# Altium footprint library IPC-7355 QFP_Shrink_Rect_30P_Side_M.PcbLib: 12 footprints
Each footprint in its own frame and in the unit in brackets; x right, y up, seen from the top. Pads: shape width x height; smd on the part's side, far side on the other; paste and mask are expansions set on the pad; w line width, h text height; cw(c..) or ccw(c..) is an arc to the next point about the centre after c.
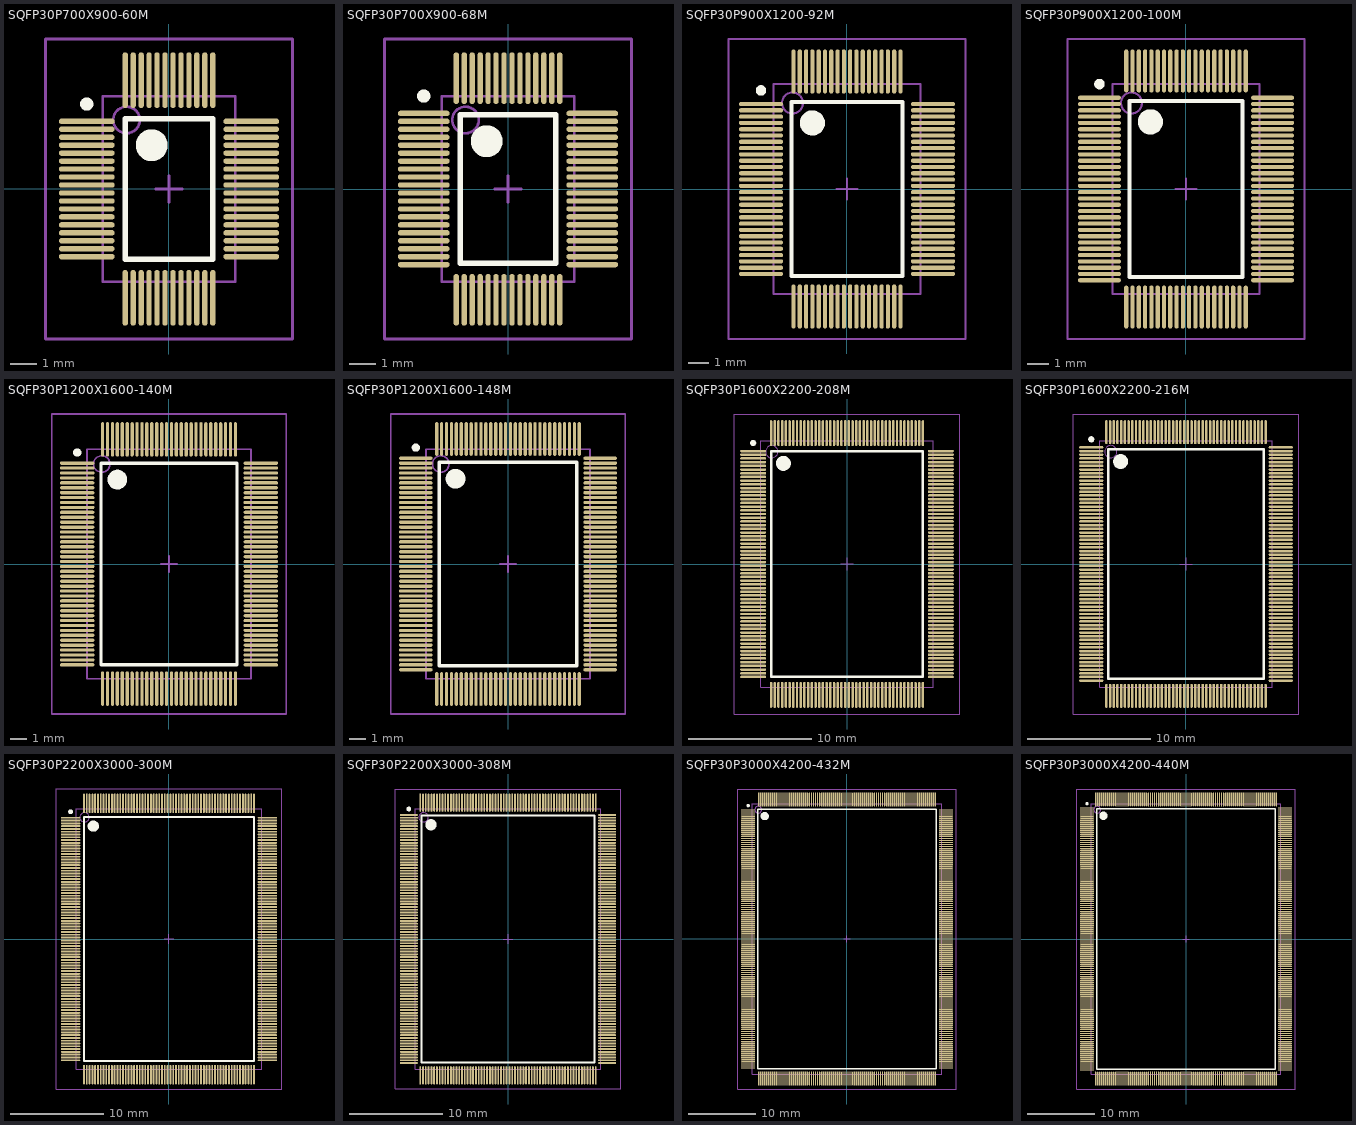
[diagram p0: the footprints below, top view; thin cyan lines are the x and y axes]

## SQFP30P700X900-60M [mm] "Shrink QFP, 60-Leads, Body 7x5 mm, Pitch 0.3mm, IPC Low Density"
height 1.7
pads (60):
  oval 2.1x0.2 smd: 1(-3.1,2.55) 2(-3.1,2.25) 3(-3.1,1.95) 4(-3.1,1.65) 5(-3.1,1.35) 6(-3.1,1.05) 7(-3.1,0.75) 8(-3.1,0.45) 9(-3.1,0.15) 10(-3.1,-0.15) 11(-3.1,-0.45) 12(-3.1,-0.75) 13(-3.1,-1.05) 14(-3.1,-1.35) 15(-3.1,-1.65) 16(-3.1,-1.95) 17(-3.1,-2.25) 18(-3.1,-2.55) 31(3.1,-2.55) 32(3.1,-2.25) 33(3.1,-1.95) 34(3.1,-1.65) 35(3.1,-1.35) 36(3.1,-1.05) 37(3.1,-0.75) 38(3.1,-0.45) 39(3.1,-0.15) 40(3.1,0.15) 41(3.1,0.45) 42(3.1,0.75) 43(3.1,1.05) 44(3.1,1.35) 45(3.1,1.65) 46(3.1,1.95) 47(3.1,2.25) 48(3.1,2.55)
  oval 0.2x2.1 smd: 19(-1.65,-4.1) 20(-1.35,-4.1) 21(-1.05,-4.1) 22(-0.75,-4.1) 23(-0.45,-4.1) 24(-0.15,-4.1) 25(0.15,-4.1) 26(0.45,-4.1) 27(0.75,-4.1) 28(1.05,-4.1) 29(1.35,-4.1) 30(1.65,-4.1) 49(1.65,4.1) 50(1.35,4.1) 51(1.05,4.1) 52(0.75,4.1) 53(0.45,4.1) 54(0.15,4.1) 55(-0.15,4.1) 56(-0.45,4.1) 57(-0.75,4.1) 58(-1.05,4.1) 59(-1.35,4.1) 60(-1.65,4.1)
Top Overlay:
  circle w0.6: c-0.65,1.65 r0.3
  circle w0.25: c-3.1,3.2 r0.125
  lines w0.2: -1.65,-2.65 1.65,-2.65 1.65,2.65 -1.65,2.65 -1.65,-2.65
Mechanical 13:
  circle w0.1: c-1.6,2.6 r0.5
  lines w0.1: -2.5,-3.5 2.5,-3.5 2.5,3.5 -2.5,3.5 -2.5,-3.5
Mechanical 15:
  lines w0.1: -0.5,0 0.5,0 ; 0,-0.5 0,0.5 ; -4.65,-5.65 4.65,-5.65 4.65,5.65 -4.65,5.65 -4.65,-5.65
3D body: height 1.7, standoff 0, extent -2.5,-3.5 2.5,3.5

## SQFP30P700X900-68M [mm] "Shrink QFP, 68-Leads, Body 7x5 mm, Pitch 0.3mm, IPC Low Density"
height 1.7
pads (68):
  oval 1.95x0.2 smd: 1(-3.175,2.85) 2(-3.175,2.55) 3(-3.175,2.25) 4(-3.175,1.95) 5(-3.175,1.65) 6(-3.175,1.35) 7(-3.175,1.05) 8(-3.175,0.75) 9(-3.175,0.45) 10(-3.175,0.15) 11(-3.175,-0.15) 12(-3.175,-0.45) 13(-3.175,-0.75) 14(-3.175,-1.05) 15(-3.175,-1.35) 16(-3.175,-1.65) 17(-3.175,-1.95) 18(-3.175,-2.25) 19(-3.175,-2.55) 20(-3.175,-2.85) 35(3.175,-2.85) 36(3.175,-2.55) 37(3.175,-2.25) 38(3.175,-1.95) 39(3.175,-1.65) 40(3.175,-1.35) 41(3.175,-1.05) 42(3.175,-0.75) 43(3.175,-0.45) 44(3.175,-0.15) 45(3.175,0.15) 46(3.175,0.45) 47(3.175,0.75) 48(3.175,1.05) 49(3.175,1.35) 50(3.175,1.65) 51(3.175,1.95) 52(3.175,2.25) 53(3.175,2.55) 54(3.175,2.85)
  oval 0.2x1.95 smd: 21(-1.95,-4.175) 22(-1.65,-4.175) 23(-1.35,-4.175) 24(-1.05,-4.175) 25(-0.75,-4.175) 26(-0.45,-4.175) 27(-0.15,-4.175) 28(0.15,-4.175) 29(0.45,-4.175) 30(0.75,-4.175) 31(1.05,-4.175) 32(1.35,-4.175) 33(1.65,-4.175) 34(1.95,-4.175) 55(1.95,4.175) 56(1.65,4.175) 57(1.35,4.175) 58(1.05,4.175) 59(0.75,4.175) 60(0.45,4.175) 61(0.15,4.175) 62(-0.15,4.175) 63(-0.45,4.175) 64(-0.75,4.175) 65(-1.05,4.175) 66(-1.35,4.175) 67(-1.65,4.175) 68(-1.95,4.175)
Top Overlay:
  circle w0.25: c-3.175,3.5 r0.125
  circle w0.6: c-0.8,1.8 r0.3
  lines w0.2: -1.8,-2.8 -1.8,2.8 1.8,2.8 1.8,-2.8 -1.8,-2.8
Mechanical 13:
  circle w0.1: c-1.6,2.6 r0.5
  lines w0.1: -2.5,-3.5 -2.5,3.5 2.5,3.5 2.5,-3.5 -2.5,-3.5
Mechanical 15:
  lines w0.1: -0.5,0 0.5,0 ; 0,-0.5 0,0.5 ; -4.65,-5.65 -4.65,5.65 4.65,5.65 4.65,-5.65 -4.65,-5.65
3D body: height 1.7, standoff 0, extent -2.5,-3.5 2.5,3.5

## SQFP30P900X1200-92M [mm] "Shrink QFP, 92-Leads, Body 10x7 mm, Pitch 0.3mm, IPC Low Density"
height 2.2
pads (92):
  oval 2.1x0.2 smd: 1(-4.1,4.05) 2(-4.1,3.75) 3(-4.1,3.45) 4(-4.1,3.15) 5(-4.1,2.85) 6(-4.1,2.55) 7(-4.1,2.25) 8(-4.1,1.95) 9(-4.1,1.65) 10(-4.1,1.35) 11(-4.1,1.05) 12(-4.1,0.75) 13(-4.1,0.45) 14(-4.1,0.15) 15(-4.1,-0.15) 16(-4.1,-0.45) 17(-4.1,-0.75) 18(-4.1,-1.05) 19(-4.1,-1.35) 20(-4.1,-1.65) 21(-4.1,-1.95) 22(-4.1,-2.25) 23(-4.1,-2.55) 24(-4.1,-2.85) 25(-4.1,-3.15) 26(-4.1,-3.45) 27(-4.1,-3.75) 28(-4.1,-4.05) 47(4.1,-4.05) 48(4.1,-3.75) 49(4.1,-3.45) 50(4.1,-3.15) 51(4.1,-2.85) 52(4.1,-2.55) 53(4.1,-2.25) 54(4.1,-1.95) 55(4.1,-1.65) 56(4.1,-1.35) 57(4.1,-1.05) 58(4.1,-0.75) 59(4.1,-0.45) 60(4.1,-0.15) 61(4.1,0.15) 62(4.1,0.45) 63(4.1,0.75) 64(4.1,1.05) 65(4.1,1.35) 66(4.1,1.65) 67(4.1,1.95) 68(4.1,2.25) 69(4.1,2.55) 70(4.1,2.85) 71(4.1,3.15) 72(4.1,3.45) 73(4.1,3.75) 74(4.1,4.05)
  oval 0.2x2.1 smd: 29(-2.55,-5.6) 30(-2.25,-5.6) 31(-1.95,-5.6) 32(-1.65,-5.6) 33(-1.35,-5.6) 34(-1.05,-5.6) 35(-0.75,-5.6) 36(-0.45,-5.6) 37(-0.15,-5.6) 38(0.15,-5.6) 39(0.45,-5.6) 40(0.75,-5.6) 41(1.05,-5.6) 42(1.35,-5.6) 43(1.65,-5.6) 44(1.95,-5.6) 45(2.25,-5.6) 46(2.55,-5.6) 75(2.55,5.6) 76(2.25,5.6) 77(1.95,5.6) 78(1.65,5.6) 79(1.35,5.6) 80(1.05,5.6) 81(0.75,5.6) 82(0.45,5.6) 83(0.15,5.6) 84(-0.15,5.6) 85(-0.45,5.6) 86(-0.75,5.6) 87(-1.05,5.6) 88(-1.35,5.6) 89(-1.65,5.6) 90(-1.95,5.6) 91(-2.25,5.6) 92(-2.55,5.6)
Top Overlay:
  circle w0.25: c-4.1,4.7 r0.125
  circle w0.6: c-1.65,3.15 r0.3
  lines w0.2: -2.65,-4.15 -2.65,4.15 2.65,4.15 2.65,-4.15 -2.65,-4.15
Mechanical 13:
  circle w0.1: c-2.6,4.1 r0.5
  lines w0.1: -3.5,-5 -3.5,5 3.5,5 3.5,-5 -3.5,-5
Mechanical 15:
  lines w0.1: -0.5,0 0.5,0 ; 0,-0.5 0,0.5 ; -5.65,-7.15 -5.65,7.15 5.65,7.15 5.65,-7.15 -5.65,-7.15
3D body: height 2.2, standoff 0, extent -3.5,-5 3.5,5

## SQFP30P900X1200-100M [mm] "Shrink QFP, 100-Leads, Body 10x7 mm, Pitch 0.3mm, IPC Low Density"
height 2.2
pads (100):
  oval 2.05x0.2 smd: 1(-4.125,4.35) 2(-4.125,4.05) 3(-4.125,3.75) 4(-4.125,3.45) 5(-4.125,3.15) 6(-4.125,2.85) 7(-4.125,2.55) 8(-4.125,2.25) 9(-4.125,1.95) 10(-4.125,1.65) 11(-4.125,1.35) 12(-4.125,1.05) 13(-4.125,0.75) 14(-4.125,0.45) 15(-4.125,0.15) 16(-4.125,-0.15) 17(-4.125,-0.45) 18(-4.125,-0.75) 19(-4.125,-1.05) 20(-4.125,-1.35) 21(-4.125,-1.65) 22(-4.125,-1.95) 23(-4.125,-2.25) 24(-4.125,-2.55) 25(-4.125,-2.85) 26(-4.125,-3.15) 27(-4.125,-3.45) 28(-4.125,-3.75) 29(-4.125,-4.05) 30(-4.125,-4.35) 51(4.125,-4.35) 52(4.125,-4.05) 53(4.125,-3.75) 54(4.125,-3.45) 55(4.125,-3.15) 56(4.125,-2.85) 57(4.125,-2.55) 58(4.125,-2.25) 59(4.125,-1.95) 60(4.125,-1.65) 61(4.125,-1.35) 62(4.125,-1.05) 63(4.125,-0.75) 64(4.125,-0.45) 65(4.125,-0.15) 66(4.125,0.15) 67(4.125,0.45) 68(4.125,0.75) 69(4.125,1.05) 70(4.125,1.35) 71(4.125,1.65) 72(4.125,1.95) 73(4.125,2.25) 74(4.125,2.55) 75(4.125,2.85) 76(4.125,3.15) 77(4.125,3.45) 78(4.125,3.75) 79(4.125,4.05) 80(4.125,4.35)
  oval 0.2x2.05 smd: 31(-2.85,-5.625) 32(-2.55,-5.625) 33(-2.25,-5.625) 34(-1.95,-5.625) 35(-1.65,-5.625) 36(-1.35,-5.625) 37(-1.05,-5.625) 38(-0.75,-5.625) 39(-0.45,-5.625) 40(-0.15,-5.625) 41(0.15,-5.625) 42(0.45,-5.625) 43(0.75,-5.625) 44(1.05,-5.625) 45(1.35,-5.625) 46(1.65,-5.625) 47(1.95,-5.625) 48(2.25,-5.625) 49(2.55,-5.625) 50(2.85,-5.625) 81(2.85,5.625) 82(2.55,5.625) 83(2.25,5.625) 84(1.95,5.625) 85(1.65,5.625) 86(1.35,5.625) 87(1.05,5.625) 88(0.75,5.625) 89(0.45,5.625) 90(0.15,5.625) 91(-0.15,5.625) 92(-0.45,5.625) 93(-0.75,5.625) 94(-1.05,5.625) 95(-1.35,5.625) 96(-1.65,5.625) 97(-1.95,5.625) 98(-2.25,5.625) 99(-2.55,5.625) 100(-2.85,5.625)
Top Overlay:
  circle w0.25: c-4.125,5 r0.125
  circle w0.6: c-1.7,3.2 r0.3
  lines w0.2: -2.7,-4.2 -2.7,4.2 2.7,4.2 2.7,-4.2 -2.7,-4.2
Mechanical 13:
  circle w0.1: c-2.6,4.1 r0.5
  lines w0.1: -3.5,-5 -3.5,5 3.5,5 3.5,-5 -3.5,-5
Mechanical 15:
  lines w0.1: -0.5,0 0.5,0 ; 0,-0.5 0,0.5 ; -5.65,-7.15 -5.65,7.15 5.65,7.15 5.65,-7.15 -5.65,-7.15
3D body: height 2.2, standoff 0, extent -3.5,-5 3.5,5

## SQFP30P1200X1600-140M [mm] "Shrink QFP, 140-Leads, Body 14x10 mm, Pitch 0.3mm, IPC Low Density"
height 2.2
pads (140):
  oval 2.1x0.2 smd: 1(-5.6,6.15) 2(-5.6,5.85) 3(-5.6,5.55) 4(-5.6,5.25) 5(-5.6,4.95) 6(-5.6,4.65) 7(-5.6,4.35) 8(-5.6,4.05) 9(-5.6,3.75) 10(-5.6,3.45) 11(-5.6,3.15) 12(-5.6,2.85) 13(-5.6,2.55) 14(-5.6,2.25) 15(-5.6,1.95) 16(-5.6,1.65) 17(-5.6,1.35) 18(-5.6,1.05) 19(-5.6,0.75) 20(-5.6,0.45) 21(-5.6,0.15) 22(-5.6,-0.15) 23(-5.6,-0.45) 24(-5.6,-0.75) 25(-5.6,-1.05) 26(-5.6,-1.35) 27(-5.6,-1.65) 28(-5.6,-1.95) 29(-5.6,-2.25) 30(-5.6,-2.55) 31(-5.6,-2.85) 32(-5.6,-3.15) 33(-5.6,-3.45) 34(-5.6,-3.75) 35(-5.6,-4.05) 36(-5.6,-4.35) 37(-5.6,-4.65) 38(-5.6,-4.95) 39(-5.6,-5.25) 40(-5.6,-5.55) 41(-5.6,-5.85) 42(-5.6,-6.15) 71(5.6,-6.15) 72(5.6,-5.85) 73(5.6,-5.55) 74(5.6,-5.25) 75(5.6,-4.95) 76(5.6,-4.65) 77(5.6,-4.35) 78(5.6,-4.05) 79(5.6,-3.75) 80(5.6,-3.45) 81(5.6,-3.15) 82(5.6,-2.85) 83(5.6,-2.55) 84(5.6,-2.25) 85(5.6,-1.95) 86(5.6,-1.65) 87(5.6,-1.35) 88(5.6,-1.05) 89(5.6,-0.75) 90(5.6,-0.45) 91(5.6,-0.15) 92(5.6,0.15) 93(5.6,0.45) 94(5.6,0.75) 95(5.6,1.05) 96(5.6,1.35) 97(5.6,1.65) 98(5.6,1.95) 99(5.6,2.25) 100(5.6,2.55) 101(5.6,2.85) 102(5.6,3.15) 103(5.6,3.45) 104(5.6,3.75) 105(5.6,4.05) 106(5.6,4.35) 107(5.6,4.65) 108(5.6,4.95) 109(5.6,5.25) 110(5.6,5.55) 111(5.6,5.85) 112(5.6,6.15)
  oval 0.2x2.1 smd: 43(-4.05,-7.6) 44(-3.75,-7.6) 45(-3.45,-7.6) 46(-3.15,-7.6) 47(-2.85,-7.6) 48(-2.55,-7.6) 49(-2.25,-7.6) 50(-1.95,-7.6) 51(-1.65,-7.6) 52(-1.35,-7.6) 53(-1.05,-7.6) 54(-0.75,-7.6) 55(-0.45,-7.6) 56(-0.15,-7.6) 57(0.15,-7.6) 58(0.45,-7.6) 59(0.75,-7.6) 60(1.05,-7.6) 61(1.35,-7.6) 62(1.65,-7.6) 63(1.95,-7.6) 64(2.25,-7.6) 65(2.55,-7.6) 66(2.85,-7.6) 67(3.15,-7.6) 68(3.45,-7.6) 69(3.75,-7.6) 70(4.05,-7.6) 113(4.05,7.6) 114(3.75,7.6) 115(3.45,7.6) 116(3.15,7.6) 117(2.85,7.6) 118(2.55,7.6) 119(2.25,7.6) 120(1.95,7.6) 121(1.65,7.6) 122(1.35,7.6) 123(1.05,7.6) 124(0.75,7.6) 125(0.45,7.6) 126(0.15,7.6) 127(-0.15,7.6) 128(-0.45,7.6) 129(-0.75,7.6) 130(-1.05,7.6) 131(-1.35,7.6) 132(-1.65,7.6) 133(-1.95,7.6) 134(-2.25,7.6) 135(-2.55,7.6) 136(-2.85,7.6) 137(-3.15,7.6) 138(-3.45,7.6) 139(-3.75,7.6) 140(-4.05,7.6)
Top Overlay:
  circle w0.25: c-5.6,6.8 r0.125
  circle w0.6: c-3.15,5.15 r0.3
  lines w0.2: -4.15,-6.15 -4.15,6.15 4.15,6.15 4.15,-6.15 -4.15,-6.15
Mechanical 13:
  circle w0.1: c-4.1,6.1 r0.5
  lines w0.1: -5,-7 -5,7 5,7 5,-7 -5,-7
Mechanical 15:
  lines w0.1: -0.5,0 0.5,0 ; 0,-0.5 0,0.5 ; -7.15,-9.15 -7.15,9.15 7.15,9.15 7.15,-9.15 -7.15,-9.15
3D body: height 2.2, standoff 0, extent -5,-7 5,7

## SQFP30P1200X1600-148M [mm] "Shrink QFP, 148-Leads, Body 14x10 mm, Pitch 0.3mm, IPC Low Density"
height 2.2
pads (148):
  oval 2.05x0.2 smd: 1(-5.625,6.45) 2(-5.625,6.15) 3(-5.625,5.85) 4(-5.625,5.55) 5(-5.625,5.25) 6(-5.625,4.95) 7(-5.625,4.65) 8(-5.625,4.35) 9(-5.625,4.05) 10(-5.625,3.75) 11(-5.625,3.45) 12(-5.625,3.15) 13(-5.625,2.85) 14(-5.625,2.55) 15(-5.625,2.25) 16(-5.625,1.95) 17(-5.625,1.65) 18(-5.625,1.35) 19(-5.625,1.05) 20(-5.625,0.75) 21(-5.625,0.45) 22(-5.625,0.15) 23(-5.625,-0.15) 24(-5.625,-0.45) 25(-5.625,-0.75) 26(-5.625,-1.05) 27(-5.625,-1.35) 28(-5.625,-1.65) 29(-5.625,-1.95) 30(-5.625,-2.25) 31(-5.625,-2.55) 32(-5.625,-2.85) 33(-5.625,-3.15) 34(-5.625,-3.45) 35(-5.625,-3.75) 36(-5.625,-4.05) 37(-5.625,-4.35) 38(-5.625,-4.65) 39(-5.625,-4.95) 40(-5.625,-5.25) 41(-5.625,-5.55) 42(-5.625,-5.85) 43(-5.625,-6.15) 44(-5.625,-6.45) 75(5.625,-6.45) 76(5.625,-6.15) 77(5.625,-5.85) 78(5.625,-5.55) 79(5.625,-5.25) 80(5.625,-4.95) 81(5.625,-4.65) 82(5.625,-4.35) 83(5.625,-4.05) 84(5.625,-3.75) 85(5.625,-3.45) 86(5.625,-3.15) 87(5.625,-2.85) 88(5.625,-2.55) 89(5.625,-2.25) 90(5.625,-1.95) 91(5.625,-1.65) 92(5.625,-1.35) 93(5.625,-1.05) 94(5.625,-0.75) 95(5.625,-0.45) 96(5.625,-0.15) 97(5.625,0.15) 98(5.625,0.45) 99(5.625,0.75) 100(5.625,1.05) 101(5.625,1.35) 102(5.625,1.65) 103(5.625,1.95) 104(5.625,2.25) 105(5.625,2.55) 106(5.625,2.85) 107(5.625,3.15) 108(5.625,3.45) 109(5.625,3.75) 110(5.625,4.05) 111(5.625,4.35) 112(5.625,4.65) 113(5.625,4.95) 114(5.625,5.25) 115(5.625,5.55) 116(5.625,5.85) 117(5.625,6.15) 118(5.625,6.45)
  oval 0.2x2.05 smd: 45(-4.35,-7.625) 46(-4.05,-7.625) 47(-3.75,-7.625) 48(-3.45,-7.625) 49(-3.15,-7.625) 50(-2.85,-7.625) 51(-2.55,-7.625) 52(-2.25,-7.625) 53(-1.95,-7.625) 54(-1.65,-7.625) 55(-1.35,-7.625) 56(-1.05,-7.625) 57(-0.75,-7.625) 58(-0.45,-7.625) 59(-0.15,-7.625) 60(0.15,-7.625) 61(0.45,-7.625) 62(0.75,-7.625) 63(1.05,-7.625) 64(1.35,-7.625) 65(1.65,-7.625) 66(1.95,-7.625) 67(2.25,-7.625) 68(2.55,-7.625) 69(2.85,-7.625) 70(3.15,-7.625) 71(3.45,-7.625) 72(3.75,-7.625) 73(4.05,-7.625) 74(4.35,-7.625) 119(4.35,7.625) 120(4.05,7.625) 121(3.75,7.625) 122(3.45,7.625) 123(3.15,7.625) 124(2.85,7.625) 125(2.55,7.625) 126(2.25,7.625) 127(1.95,7.625) 128(1.65,7.625) 129(1.35,7.625) 130(1.05,7.625) 131(0.75,7.625) 132(0.45,7.625) 133(0.15,7.625) 134(-0.15,7.625) 135(-0.45,7.625) 136(-0.75,7.625) 137(-1.05,7.625) 138(-1.35,7.625) 139(-1.65,7.625) 140(-1.95,7.625) 141(-2.25,7.625) 142(-2.55,7.625) 143(-2.85,7.625) 144(-3.15,7.625) 145(-3.45,7.625) 146(-3.75,7.625) 147(-4.05,7.625) 148(-4.35,7.625)
Top Overlay:
  circle w0.25: c-5.625,7.1 r0.125
  circle w0.6: c-3.2,5.2 r0.3
  lines w0.2: -4.2,-6.2 -4.2,6.2 4.2,6.2 4.2,-6.2 -4.2,-6.2
Mechanical 13:
  circle w0.1: c-4.1,6.1 r0.5
  lines w0.1: -5,-7 -5,7 5,7 5,-7 -5,-7
Mechanical 15:
  lines w0.1: -0.5,0 0.5,0 ; 0,-0.5 0,0.5 ; -7.15,-9.15 -7.15,9.15 7.15,9.15 7.15,-9.15 -7.15,-9.15
3D body: height 2.2, standoff 0, extent -5,-7 5,7

## SQFP30P1600X2200-208M [mm] "Shrink QFP, 208-Leads, Body 20x14 mm, Pitch 0.3mm, IPC Low Density"
height 2.2
pads (208):
  oval 2.1x0.2 smd: 1(-7.6,9.15) 2(-7.6,8.85) 3(-7.6,8.55) 4(-7.6,8.25) 5(-7.6,7.95) 6(-7.6,7.65) 7(-7.6,7.35) 8(-7.6,7.05) 9(-7.6,6.75) 10(-7.6,6.45) 11(-7.6,6.15) 12(-7.6,5.85) 13(-7.6,5.55) 14(-7.6,5.25) 15(-7.6,4.95) 16(-7.6,4.65) 17(-7.6,4.35) 18(-7.6,4.05) 19(-7.6,3.75) 20(-7.6,3.45) 21(-7.6,3.15) 22(-7.6,2.85) 23(-7.6,2.55) 24(-7.6,2.25) 25(-7.6,1.95) 26(-7.6,1.65) 27(-7.6,1.35) 28(-7.6,1.05) 29(-7.6,0.75) 30(-7.6,0.45) 31(-7.6,0.15) 32(-7.6,-0.15) 33(-7.6,-0.45) 34(-7.6,-0.75) 35(-7.6,-1.05) 36(-7.6,-1.35) 37(-7.6,-1.65) 38(-7.6,-1.95) 39(-7.6,-2.25) 40(-7.6,-2.55) 41(-7.6,-2.85) 42(-7.6,-3.15) 43(-7.6,-3.45) 44(-7.6,-3.75) 45(-7.6,-4.05) 46(-7.6,-4.35) 47(-7.6,-4.65) 48(-7.6,-4.95) 49(-7.6,-5.25) 50(-7.6,-5.55) 51(-7.6,-5.85) 52(-7.6,-6.15) 53(-7.6,-6.45) 54(-7.6,-6.75) 55(-7.6,-7.05) 56(-7.6,-7.35) 57(-7.6,-7.65) 58(-7.6,-7.95) 59(-7.6,-8.25) 60(-7.6,-8.55) 61(-7.6,-8.85) 62(-7.6,-9.15) 105(7.6,-9.15) 106(7.6,-8.85) 107(7.6,-8.55) 108(7.6,-8.25) 109(7.6,-7.95) 110(7.6,-7.65) 111(7.6,-7.35) 112(7.6,-7.05) 113(7.6,-6.75) 114(7.6,-6.45) 115(7.6,-6.15) 116(7.6,-5.85) 117(7.6,-5.55) 118(7.6,-5.25) 119(7.6,-4.95) 120(7.6,-4.65) 121(7.6,-4.35) 122(7.6,-4.05) 123(7.6,-3.75) 124(7.6,-3.45) 125(7.6,-3.15) 126(7.6,-2.85) 127(7.6,-2.55) 128(7.6,-2.25) 129(7.6,-1.95) 130(7.6,-1.65) 131(7.6,-1.35) 132(7.6,-1.05) 133(7.6,-0.75) 134(7.6,-0.45) 135(7.6,-0.15) 136(7.6,0.15) 137(7.6,0.45) 138(7.6,0.75) 139(7.6,1.05) 140(7.6,1.35) 141(7.6,1.65) 142(7.6,1.95) 143(7.6,2.25) 144(7.6,2.55) 145(7.6,2.85) 146(7.6,3.15) 147(7.6,3.45) 148(7.6,3.75) 149(7.6,4.05) 150(7.6,4.35) 151(7.6,4.65) 152(7.6,4.95) 153(7.6,5.25) 154(7.6,5.55) 155(7.6,5.85) 156(7.6,6.15) 157(7.6,6.45) 158(7.6,6.75) 159(7.6,7.05) 160(7.6,7.35) 161(7.6,7.65) 162(7.6,7.95) 163(7.6,8.25) 164(7.6,8.55) 165(7.6,8.85) 166(7.6,9.15)
  oval 0.2x2.1 smd: 63(-6.15,-10.6) 64(-5.85,-10.6) 65(-5.55,-10.6) 66(-5.25,-10.6) 67(-4.95,-10.6) 68(-4.65,-10.6) 69(-4.35,-10.6) 70(-4.05,-10.6) 71(-3.75,-10.6) 72(-3.45,-10.6) 73(-3.15,-10.6) 74(-2.85,-10.6) 75(-2.55,-10.6) 76(-2.25,-10.6) 77(-1.95,-10.6) 78(-1.65,-10.6) 79(-1.35,-10.6) 80(-1.05,-10.6) 81(-0.75,-10.6) 82(-0.45,-10.6) 83(-0.15,-10.6) 84(0.15,-10.6) 85(0.45,-10.6) 86(0.75,-10.6) 87(1.05,-10.6) 88(1.35,-10.6) 89(1.65,-10.6) 90(1.95,-10.6) 91(2.25,-10.6) 92(2.55,-10.6) 93(2.85,-10.6) 94(3.15,-10.6) 95(3.45,-10.6) 96(3.75,-10.6) 97(4.05,-10.6) 98(4.35,-10.6) 99(4.65,-10.6) 100(4.95,-10.6) 101(5.25,-10.6) 102(5.55,-10.6) 103(5.85,-10.6) 104(6.15,-10.6) 167(6.15,10.6) 168(5.85,10.6) 169(5.55,10.6) 170(5.25,10.6) 171(4.95,10.6) 172(4.65,10.6) 173(4.35,10.6) 174(4.05,10.6) 175(3.75,10.6) 176(3.45,10.6) 177(3.15,10.6) 178(2.85,10.6) 179(2.55,10.6) 180(2.25,10.6) 181(1.95,10.6) 182(1.65,10.6) 183(1.35,10.6) 184(1.05,10.6) 185(0.75,10.6) 186(0.45,10.6) 187(0.15,10.6) 188(-0.15,10.6) 189(-0.45,10.6) 190(-0.75,10.6) 191(-1.05,10.6) 192(-1.35,10.6) 193(-1.65,10.6) 194(-1.95,10.6) 195(-2.25,10.6) 196(-2.55,10.6) 197(-2.85,10.6) 198(-3.15,10.6) 199(-3.45,10.6) 200(-3.75,10.6) 201(-4.05,10.6) 202(-4.35,10.6) 203(-4.65,10.6) 204(-4.95,10.6) 205(-5.25,10.6) 206(-5.55,10.6) 207(-5.85,10.6) 208(-6.15,10.6)
Top Overlay:
  circle w0.25: c-7.6,9.8 r0.125
  circle w0.6: c-5.15,8.15 r0.3
  lines w0.2: -6.15,-9.15 -6.15,9.15 6.15,9.15 6.15,-9.15 -6.15,-9.15
Mechanical 13:
  circle w0.1: c-6.1,9.1 r0.5
  lines w0.1: -7,-10 -7,10 7,10 7,-10 -7,-10
Mechanical 15:
  lines w0.1: -0.5,0 0.5,0 ; 0,-0.5 0,0.5 ; -9.15,-12.15 -9.15,12.15 9.15,12.15 9.15,-12.15 -9.15,-12.15
3D body: height 2.2, standoff 0, extent -7,-10 7,10

## SQFP30P1600X2200-216M [mm] "Shrink QFP, 216-Leads, Body 20x14 mm, Pitch 0.3mm, IPC Low Density"
height 2.2
pads (216):
  oval 1.95x0.2 smd: 1(-7.675,9.45) 2(-7.675,9.15) 3(-7.675,8.85) 4(-7.675,8.55) 5(-7.675,8.25) 6(-7.675,7.95) 7(-7.675,7.65) 8(-7.675,7.35) 9(-7.675,7.05) 10(-7.675,6.75) 11(-7.675,6.45) 12(-7.675,6.15) 13(-7.675,5.85) 14(-7.675,5.55) 15(-7.675,5.25) 16(-7.675,4.95) 17(-7.675,4.65) 18(-7.675,4.35) 19(-7.675,4.05) 20(-7.675,3.75) 21(-7.675,3.45) 22(-7.675,3.15) 23(-7.675,2.85) 24(-7.675,2.55) 25(-7.675,2.25) 26(-7.675,1.95) 27(-7.675,1.65) 28(-7.675,1.35) 29(-7.675,1.05) 30(-7.675,0.75) 31(-7.675,0.45) 32(-7.675,0.15) 33(-7.675,-0.15) 34(-7.675,-0.45) 35(-7.675,-0.75) 36(-7.675,-1.05) 37(-7.675,-1.35) 38(-7.675,-1.65) 39(-7.675,-1.95) 40(-7.675,-2.25) 41(-7.675,-2.55) 42(-7.675,-2.85) 43(-7.675,-3.15) 44(-7.675,-3.45) 45(-7.675,-3.75) 46(-7.675,-4.05) 47(-7.675,-4.35) 48(-7.675,-4.65) 49(-7.675,-4.95) 50(-7.675,-5.25) 51(-7.675,-5.55) 52(-7.675,-5.85) 53(-7.675,-6.15) 54(-7.675,-6.45) 55(-7.675,-6.75) 56(-7.675,-7.05) 57(-7.675,-7.35) 58(-7.675,-7.65) 59(-7.675,-7.95) 60(-7.675,-8.25) 61(-7.675,-8.55) 62(-7.675,-8.85) 63(-7.675,-9.15) 64(-7.675,-9.45) 109(7.675,-9.45) 110(7.675,-9.15) 111(7.675,-8.85) 112(7.675,-8.55) 113(7.675,-8.25) 114(7.675,-7.95) 115(7.675,-7.65) 116(7.675,-7.35) 117(7.675,-7.05) 118(7.675,-6.75) 119(7.675,-6.45) 120(7.675,-6.15) 121(7.675,-5.85) 122(7.675,-5.55) 123(7.675,-5.25) 124(7.675,-4.95) 125(7.675,-4.65) 126(7.675,-4.35) 127(7.675,-4.05) 128(7.675,-3.75) 129(7.675,-3.45) 130(7.675,-3.15) 131(7.675,-2.85) 132(7.675,-2.55) 133(7.675,-2.25) 134(7.675,-1.95) 135(7.675,-1.65) 136(7.675,-1.35) 137(7.675,-1.05) 138(7.675,-0.75) 139(7.675,-0.45) 140(7.675,-0.15) 141(7.675,0.15) 142(7.675,0.45) 143(7.675,0.75) 144(7.675,1.05) 145(7.675,1.35) 146(7.675,1.65) 147(7.675,1.95) 148(7.675,2.25) 149(7.675,2.55) 150(7.675,2.85) 151(7.675,3.15) 152(7.675,3.45) 153(7.675,3.75) 154(7.675,4.05) 155(7.675,4.35) 156(7.675,4.65) 157(7.675,4.95) 158(7.675,5.25) 159(7.675,5.55) 160(7.675,5.85) 161(7.675,6.15) 162(7.675,6.45) 163(7.675,6.75) 164(7.675,7.05) 165(7.675,7.35) 166(7.675,7.65) 167(7.675,7.95) 168(7.675,8.25) 169(7.675,8.55) 170(7.675,8.85) 171(7.675,9.15) 172(7.675,9.45)
  oval 0.2x1.95 smd: 65(-6.45,-10.675) 66(-6.15,-10.675) 67(-5.85,-10.675) 68(-5.55,-10.675) 69(-5.25,-10.675) 70(-4.95,-10.675) 71(-4.65,-10.675) 72(-4.35,-10.675) 73(-4.05,-10.675) 74(-3.75,-10.675) 75(-3.45,-10.675) 76(-3.15,-10.675) 77(-2.85,-10.675) 78(-2.55,-10.675) 79(-2.25,-10.675) 80(-1.95,-10.675) 81(-1.65,-10.675) 82(-1.35,-10.675) 83(-1.05,-10.675) 84(-0.75,-10.675) 85(-0.45,-10.675) 86(-0.15,-10.675) 87(0.15,-10.675) 88(0.45,-10.675) 89(0.75,-10.675) 90(1.05,-10.675) 91(1.35,-10.675) 92(1.65,-10.675) 93(1.95,-10.675) 94(2.25,-10.675) 95(2.55,-10.675) 96(2.85,-10.675) 97(3.15,-10.675) 98(3.45,-10.675) 99(3.75,-10.675) 100(4.05,-10.675) 101(4.35,-10.675) 102(4.65,-10.675) 103(4.95,-10.675) 104(5.25,-10.675) 105(5.55,-10.675) 106(5.85,-10.675) 107(6.15,-10.675) 108(6.45,-10.675) 173(6.45,10.675) 174(6.15,10.675) 175(5.85,10.675) 176(5.55,10.675) 177(5.25,10.675) 178(4.95,10.675) 179(4.65,10.675) 180(4.35,10.675) 181(4.05,10.675) 182(3.75,10.675) 183(3.45,10.675) 184(3.15,10.675) 185(2.85,10.675) 186(2.55,10.675) 187(2.25,10.675) 188(1.95,10.675) 189(1.65,10.675) 190(1.35,10.675) 191(1.05,10.675) 192(0.75,10.675) 193(0.45,10.675) 194(0.15,10.675) 195(-0.15,10.675) 196(-0.45,10.675) 197(-0.75,10.675) 198(-1.05,10.675) 199(-1.35,10.675) 200(-1.65,10.675) 201(-1.95,10.675) 202(-2.25,10.675) 203(-2.55,10.675) 204(-2.85,10.675) 205(-3.15,10.675) 206(-3.45,10.675) 207(-3.75,10.675) 208(-4.05,10.675) 209(-4.35,10.675) 210(-4.65,10.675) 211(-4.95,10.675) 212(-5.25,10.675) 213(-5.55,10.675) 214(-5.85,10.675) 215(-6.15,10.675) 216(-6.45,10.675)
Top Overlay:
  circle w0.25: c-7.675,10.1 r0.125
  circle w0.6: c-5.3,8.3 r0.3
  lines w0.2: -6.3,-9.3 -6.3,9.3 6.3,9.3 6.3,-9.3 -6.3,-9.3
Mechanical 13:
  circle w0.1: c-6.1,9.1 r0.5
  lines w0.1: -7,-10 -7,10 7,10 7,-10 -7,-10
Mechanical 15:
  lines w0.1: -0.5,0 0.5,0 ; 0,-0.5 0,0.5 ; -9.15,-12.15 -9.15,12.15 9.15,12.15 9.15,-12.15 -9.15,-12.15
3D body: height 2.2, standoff 0, extent -7,-10 7,10

## SQFP30P2200X3000-300M [mm] "Shrink QFP, 300-Leads, Body 28x20 mm, Pitch 0.3mm, IPC Low Density"
height 3.75
pads (300):
  oval 2.1x0.2 smd: 1(-10.6,13.05) 2(-10.6,12.75) 3(-10.6,12.45) 4(-10.6,12.15) 5(-10.6,11.85) 6(-10.6,11.55) 7(-10.6,11.25) 8(-10.6,10.95) 9(-10.6,10.65) 10(-10.6,10.35) 11(-10.6,10.05) 12(-10.6,9.75) 13(-10.6,9.45) 14(-10.6,9.15) 15(-10.6,8.85) 16(-10.6,8.55) 17(-10.6,8.25) 18(-10.6,7.95) 19(-10.6,7.65) 20(-10.6,7.35) 21(-10.6,7.05) 22(-10.6,6.75) 23(-10.6,6.45) 24(-10.6,6.15) 25(-10.6,5.85) 26(-10.6,5.55) 27(-10.6,5.25) 28(-10.6,4.95) 29(-10.6,4.65) 30(-10.6,4.35) 31(-10.6,4.05) 32(-10.6,3.75) 33(-10.6,3.45) 34(-10.6,3.15) 35(-10.6,2.85) 36(-10.6,2.55) 37(-10.6,2.25) 38(-10.6,1.95) 39(-10.6,1.65) 40(-10.6,1.35) 41(-10.6,1.05) 42(-10.6,0.75) 43(-10.6,0.45) 44(-10.6,0.15) 45(-10.6,-0.15) 46(-10.6,-0.45) 47(-10.6,-0.75) 48(-10.6,-1.05) 49(-10.6,-1.35) 50(-10.6,-1.65) 51(-10.6,-1.95) 52(-10.6,-2.25) 53(-10.6,-2.55) 54(-10.6,-2.85) 55(-10.6,-3.15) 56(-10.6,-3.45) 57(-10.6,-3.75) 58(-10.6,-4.05) 59(-10.6,-4.35) 60(-10.6,-4.65) 61(-10.6,-4.95) 62(-10.6,-5.25) 63(-10.6,-5.55) 64(-10.6,-5.85) 65(-10.6,-6.15) 66(-10.6,-6.45) 67(-10.6,-6.75) 68(-10.6,-7.05) 69(-10.6,-7.35) 70(-10.6,-7.65) 71(-10.6,-7.95) 72(-10.6,-8.25) 73(-10.6,-8.55) 74(-10.6,-8.85) 75(-10.6,-9.15) 76(-10.6,-9.45) 77(-10.6,-9.75) 78(-10.6,-10.05) 79(-10.6,-10.35) 80(-10.6,-10.65) 81(-10.6,-10.95) 82(-10.6,-11.25) 83(-10.6,-11.55) 84(-10.6,-11.85) 85(-10.6,-12.15) 86(-10.6,-12.45) 87(-10.6,-12.75) 88(-10.6,-13.05) 151(10.6,-13.05) 152(10.6,-12.75) 153(10.6,-12.45) 154(10.6,-12.15) 155(10.6,-11.85) 156(10.6,-11.55) 157(10.6,-11.25) 158(10.6,-10.95) 159(10.6,-10.65) 160(10.6,-10.35) 161(10.6,-10.05) 162(10.6,-9.75) 163(10.6,-9.45) 164(10.6,-9.15) 165(10.6,-8.85) 166(10.6,-8.55) 167(10.6,-8.25) 168(10.6,-7.95) 169(10.6,-7.65) 170(10.6,-7.35) 171(10.6,-7.05) 172(10.6,-6.75) 173(10.6,-6.45) 174(10.6,-6.15) 175(10.6,-5.85) 176(10.6,-5.55) 177(10.6,-5.25) 178(10.6,-4.95) 179(10.6,-4.65) 180(10.6,-4.35) 181(10.6,-4.05) 182(10.6,-3.75) 183(10.6,-3.45) 184(10.6,-3.15) 185(10.6,-2.85) 186(10.6,-2.55) 187(10.6,-2.25) 188(10.6,-1.95) 189(10.6,-1.65) 190(10.6,-1.35) 191(10.6,-1.05) 192(10.6,-0.75) 193(10.6,-0.45) 194(10.6,-0.15) 195(10.6,0.15) 196(10.6,0.45) 197(10.6,0.75) 198(10.6,1.05) 199(10.6,1.35) 200(10.6,1.65) 201(10.6,1.95) 202(10.6,2.25) 203(10.6,2.55) 204(10.6,2.85) 205(10.6,3.15) 206(10.6,3.45) 207(10.6,3.75) 208(10.6,4.05) 209(10.6,4.35) 210(10.6,4.65) 211(10.6,4.95) 212(10.6,5.25) 213(10.6,5.55) 214(10.6,5.85) 215(10.6,6.15) 216(10.6,6.45) 217(10.6,6.75) 218(10.6,7.05) 219(10.6,7.35) 220(10.6,7.65) 221(10.6,7.95) 222(10.6,8.25) 223(10.6,8.55) 224(10.6,8.85) 225(10.6,9.15) 226(10.6,9.45) 227(10.6,9.75) 228(10.6,10.05) 229(10.6,10.35) 230(10.6,10.65) 231(10.6,10.95) 232(10.6,11.25) 233(10.6,11.55) 234(10.6,11.85) 235(10.6,12.15) 236(10.6,12.45) 237(10.6,12.75) 238(10.6,13.05)
  oval 0.2x2.1 smd: 89(-9.15,-14.6) 90(-8.85,-14.6) 91(-8.55,-14.6) 92(-8.25,-14.6) 93(-7.95,-14.6) 94(-7.65,-14.6) 95(-7.35,-14.6) 96(-7.05,-14.6) 97(-6.75,-14.6) 98(-6.45,-14.6) 99(-6.15,-14.6) 100(-5.85,-14.6) 101(-5.55,-14.6) 102(-5.25,-14.6) 103(-4.95,-14.6) 104(-4.65,-14.6) 105(-4.35,-14.6) 106(-4.05,-14.6) 107(-3.75,-14.6) 108(-3.45,-14.6) 109(-3.15,-14.6) 110(-2.85,-14.6) 111(-2.55,-14.6) 112(-2.25,-14.6) 113(-1.95,-14.6) 114(-1.65,-14.6) 115(-1.35,-14.6) 116(-1.05,-14.6) 117(-0.75,-14.6) 118(-0.45,-14.6) 119(-0.15,-14.6) 120(0.15,-14.6) 121(0.45,-14.6) 122(0.75,-14.6) 123(1.05,-14.6) 124(1.35,-14.6) 125(1.65,-14.6) 126(1.95,-14.6) 127(2.25,-14.6) 128(2.55,-14.6) 129(2.85,-14.6) 130(3.15,-14.6) 131(3.45,-14.6) 132(3.75,-14.6) 133(4.05,-14.6) 134(4.35,-14.6) 135(4.65,-14.6) 136(4.95,-14.6) 137(5.25,-14.6) 138(5.55,-14.6) 139(5.85,-14.6) 140(6.15,-14.6) 141(6.45,-14.6) 142(6.75,-14.6) 143(7.05,-14.6) 144(7.35,-14.6) 145(7.65,-14.6) 146(7.95,-14.6) 147(8.25,-14.6) 148(8.55,-14.6) 149(8.85,-14.6) 150(9.15,-14.6) 239(9.15,14.6) 240(8.85,14.6) 241(8.55,14.6) 242(8.25,14.6) 243(7.95,14.6) 244(7.65,14.6) 245(7.35,14.6) 246(7.05,14.6) 247(6.75,14.6) 248(6.45,14.6) 249(6.15,14.6) 250(5.85,14.6) 251(5.55,14.6) 252(5.25,14.6) 253(4.95,14.6) 254(4.65,14.6) 255(4.35,14.6) 256(4.05,14.6) 257(3.75,14.6) 258(3.45,14.6) 259(3.15,14.6) 260(2.85,14.6) 261(2.55,14.6) 262(2.25,14.6) 263(1.95,14.6) 264(1.65,14.6) 265(1.35,14.6) 266(1.05,14.6) 267(0.75,14.6) 268(0.45,14.6) 269(0.15,14.6) 270(-0.15,14.6) 271(-0.45,14.6) 272(-0.75,14.6) 273(-1.05,14.6) 274(-1.35,14.6) 275(-1.65,14.6) 276(-1.95,14.6) 277(-2.25,14.6) 278(-2.55,14.6) 279(-2.85,14.6) 280(-3.15,14.6) 281(-3.45,14.6) 282(-3.75,14.6) 283(-4.05,14.6) 284(-4.35,14.6) 285(-4.65,14.6) 286(-4.95,14.6) 287(-5.25,14.6) 288(-5.55,14.6) 289(-5.85,14.6) 290(-6.15,14.6) 291(-6.45,14.6) 292(-6.75,14.6) 293(-7.05,14.6) 294(-7.35,14.6) 295(-7.65,14.6) 296(-7.95,14.6) 297(-8.25,14.6) 298(-8.55,14.6) 299(-8.85,14.6) 300(-9.15,14.6)
Top Overlay:
  circle w0.25: c-10.6,13.7 r0.125
  circle w0.6: c-8.15,12.15 r0.3
  lines w0.2: -9.15,-13.15 -9.15,13.15 9.15,13.15 9.15,-13.15 -9.15,-13.15
Mechanical 13:
  circle w0.1: c-9.1,13.1 r0.5
  lines w0.1: -10,-14 -10,14 10,14 10,-14 -10,-14
Mechanical 15:
  lines w0.1: -0.5,0 0.5,0 ; 0,-0.5 0,0.5 ; -12.15,-16.15 -12.15,16.15 12.15,16.15 12.15,-16.15 -12.15,-16.15
3D body: height 3.75, standoff 0, extent -10,-14 10,14

## SQFP30P2200X3000-308M [mm] "Shrink QFP, 308-Leads, Body 28x20 mm, Pitch 0.3mm, IPC Low Density"
height 3.75
pads (308):
  oval 1.95x0.2 smd: 1(-10.675,13.35) 2(-10.675,13.05) 3(-10.675,12.75) 4(-10.675,12.45) 5(-10.675,12.15) 6(-10.675,11.85) 7(-10.675,11.55) 8(-10.675,11.25) 9(-10.675,10.95) 10(-10.675,10.65) 11(-10.675,10.35) 12(-10.675,10.05) 13(-10.675,9.75) 14(-10.675,9.45) 15(-10.675,9.15) 16(-10.675,8.85) 17(-10.675,8.55) 18(-10.675,8.25) 19(-10.675,7.95) 20(-10.675,7.65) 21(-10.675,7.35) 22(-10.675,7.05) 23(-10.675,6.75) 24(-10.675,6.45) 25(-10.675,6.15) 26(-10.675,5.85) 27(-10.675,5.55) 28(-10.675,5.25) 29(-10.675,4.95) 30(-10.675,4.65) 31(-10.675,4.35) 32(-10.675,4.05) 33(-10.675,3.75) 34(-10.675,3.45) 35(-10.675,3.15) 36(-10.675,2.85) 37(-10.675,2.55) 38(-10.675,2.25) 39(-10.675,1.95) 40(-10.675,1.65) 41(-10.675,1.35) 42(-10.675,1.05) 43(-10.675,0.75) 44(-10.675,0.45) 45(-10.675,0.15) 46(-10.675,-0.15) 47(-10.675,-0.45) 48(-10.675,-0.75) 49(-10.675,-1.05) 50(-10.675,-1.35) 51(-10.675,-1.65) 52(-10.675,-1.95) 53(-10.675,-2.25) 54(-10.675,-2.55) 55(-10.675,-2.85) 56(-10.675,-3.15) 57(-10.675,-3.45) 58(-10.675,-3.75) 59(-10.675,-4.05) 60(-10.675,-4.35) 61(-10.675,-4.65) 62(-10.675,-4.95) 63(-10.675,-5.25) 64(-10.675,-5.55) 65(-10.675,-5.85) 66(-10.675,-6.15) 67(-10.675,-6.45) 68(-10.675,-6.75) 69(-10.675,-7.05) 70(-10.675,-7.35) 71(-10.675,-7.65) 72(-10.675,-7.95) 73(-10.675,-8.25) 74(-10.675,-8.55) 75(-10.675,-8.85) 76(-10.675,-9.15) 77(-10.675,-9.45) 78(-10.675,-9.75) 79(-10.675,-10.05) 80(-10.675,-10.35) 81(-10.675,-10.65) 82(-10.675,-10.95) 83(-10.675,-11.25) 84(-10.675,-11.55) 85(-10.675,-11.85) 86(-10.675,-12.15) 87(-10.675,-12.45) 88(-10.675,-12.75) 89(-10.675,-13.05) 90(-10.675,-13.35) 155(10.675,-13.35) 156(10.675,-13.05) 157(10.675,-12.75) 158(10.675,-12.45) 159(10.675,-12.15) 160(10.675,-11.85) 161(10.675,-11.55) 162(10.675,-11.25) 163(10.675,-10.95) 164(10.675,-10.65) 165(10.675,-10.35) 166(10.675,-10.05) 167(10.675,-9.75) 168(10.675,-9.45) 169(10.675,-9.15) 170(10.675,-8.85) 171(10.675,-8.55) 172(10.675,-8.25) 173(10.675,-7.95) 174(10.675,-7.65) 175(10.675,-7.35) 176(10.675,-7.05) 177(10.675,-6.75) 178(10.675,-6.45) 179(10.675,-6.15) 180(10.675,-5.85) 181(10.675,-5.55) 182(10.675,-5.25) 183(10.675,-4.95) 184(10.675,-4.65) 185(10.675,-4.35) 186(10.675,-4.05) 187(10.675,-3.75) 188(10.675,-3.45) 189(10.675,-3.15) 190(10.675,-2.85) 191(10.675,-2.55) 192(10.675,-2.25) 193(10.675,-1.95) 194(10.675,-1.65) 195(10.675,-1.35) 196(10.675,-1.05) 197(10.675,-0.75) 198(10.675,-0.45) 199(10.675,-0.15) 200(10.675,0.15) 201(10.675,0.45) 202(10.675,0.75) 203(10.675,1.05) 204(10.675,1.35) 205(10.675,1.65) 206(10.675,1.95) 207(10.675,2.25) 208(10.675,2.55) 209(10.675,2.85) 210(10.675,3.15) 211(10.675,3.45) 212(10.675,3.75) 213(10.675,4.05) 214(10.675,4.35) 215(10.675,4.65) 216(10.675,4.95) 217(10.675,5.25) 218(10.675,5.55) 219(10.675,5.85) 220(10.675,6.15) 221(10.675,6.45) 222(10.675,6.75) 223(10.675,7.05) 224(10.675,7.35) 225(10.675,7.65) 226(10.675,7.95) 227(10.675,8.25) 228(10.675,8.55) 229(10.675,8.85) 230(10.675,9.15) 231(10.675,9.45) 232(10.675,9.75) 233(10.675,10.05) 234(10.675,10.35) 235(10.675,10.65) 236(10.675,10.95) 237(10.675,11.25) 238(10.675,11.55) 239(10.675,11.85) 240(10.675,12.15) 241(10.675,12.45) 242(10.675,12.75) 243(10.675,13.05) 244(10.675,13.35)
  oval 0.2x1.95 smd: 91(-9.45,-14.675) 92(-9.15,-14.675) 93(-8.85,-14.675) 94(-8.55,-14.675) 95(-8.25,-14.675) 96(-7.95,-14.675) 97(-7.65,-14.675) 98(-7.35,-14.675) 99(-7.05,-14.675) 100(-6.75,-14.675) 101(-6.45,-14.675) 102(-6.15,-14.675) 103(-5.85,-14.675) 104(-5.55,-14.675) 105(-5.25,-14.675) 106(-4.95,-14.675) 107(-4.65,-14.675) 108(-4.35,-14.675) 109(-4.05,-14.675) 110(-3.75,-14.675) 111(-3.45,-14.675) 112(-3.15,-14.675) 113(-2.85,-14.675) 114(-2.55,-14.675) 115(-2.25,-14.675) 116(-1.95,-14.675) 117(-1.65,-14.675) 118(-1.35,-14.675) 119(-1.05,-14.675) 120(-0.75,-14.675) 121(-0.45,-14.675) 122(-0.15,-14.675) 123(0.15,-14.675) 124(0.45,-14.675) 125(0.75,-14.675) 126(1.05,-14.675) 127(1.35,-14.675) 128(1.65,-14.675) 129(1.95,-14.675) 130(2.25,-14.675) 131(2.55,-14.675) 132(2.85,-14.675) 133(3.15,-14.675) 134(3.45,-14.675) 135(3.75,-14.675) 136(4.05,-14.675) 137(4.35,-14.675) 138(4.65,-14.675) 139(4.95,-14.675) 140(5.25,-14.675) 141(5.55,-14.675) 142(5.85,-14.675) 143(6.15,-14.675) 144(6.45,-14.675) 145(6.75,-14.675) 146(7.05,-14.675) 147(7.35,-14.675) 148(7.65,-14.675) 149(7.95,-14.675) 150(8.25,-14.675) 151(8.55,-14.675) 152(8.85,-14.675) 153(9.15,-14.675) 154(9.45,-14.675) 245(9.45,14.675) 246(9.15,14.675) 247(8.85,14.675) 248(8.55,14.675) 249(8.25,14.675) 250(7.95,14.675) 251(7.65,14.675) 252(7.35,14.675) 253(7.05,14.675) 254(6.75,14.675) 255(6.45,14.675) 256(6.15,14.675) 257(5.85,14.675) 258(5.55,14.675) 259(5.25,14.675) 260(4.95,14.675) 261(4.65,14.675) 262(4.35,14.675) 263(4.05,14.675) 264(3.75,14.675) 265(3.45,14.675) 266(3.15,14.675) 267(2.85,14.675) 268(2.55,14.675) 269(2.25,14.675) 270(1.95,14.675) 271(1.65,14.675) 272(1.35,14.675) 273(1.05,14.675) 274(0.75,14.675) 275(0.45,14.675) 276(0.15,14.675) 277(-0.15,14.675) 278(-0.45,14.675) 279(-0.75,14.675) 280(-1.05,14.675) 281(-1.35,14.675) 282(-1.65,14.675) 283(-1.95,14.675) 284(-2.25,14.675) 285(-2.55,14.675) 286(-2.85,14.675) 287(-3.15,14.675) 288(-3.45,14.675) 289(-3.75,14.675) 290(-4.05,14.675) 291(-4.35,14.675) 292(-4.65,14.675) 293(-4.95,14.675) 294(-5.25,14.675) 295(-5.55,14.675) 296(-5.85,14.675) 297(-6.15,14.675) 298(-6.45,14.675) 299(-6.75,14.675) 300(-7.05,14.675) 301(-7.35,14.675) 302(-7.65,14.675) 303(-7.95,14.675) 304(-8.25,14.675) 305(-8.55,14.675) 306(-8.85,14.675) 307(-9.15,14.675) 308(-9.45,14.675)
Top Overlay:
  circle w0.25: c-10.675,14 r0.125
  circle w0.6: c-8.3,12.3 r0.3
  lines w0.2: -9.3,-13.3 -9.3,13.3 9.3,13.3 9.3,-13.3 -9.3,-13.3
Mechanical 13:
  circle w0.1: c-9.1,13.1 r0.5
  lines w0.1: -10,-14 -10,14 10,14 10,-14 -10,-14
Mechanical 15:
  lines w0.1: -0.5,0 0.5,0 ; 0,-0.5 0,0.5 ; -12.15,-16.15 -12.15,16.15 12.15,16.15 12.15,-16.15 -12.15,-16.15
3D body: height 3.75, standoff 0, extent -10,-14 10,14

## SQFP30P3000X4200-432M [mm] "Shrink QFP, 432-Leads, Body 40x28 mm, Pitch 0.3mm, IPC Low Density"
height 4.2
pads (432):
  oval 2.1x0.2 smd: 1(-14.6,19.05) 2(-14.6,18.75) 3(-14.6,18.45) 4(-14.6,18.15) 5(-14.6,17.85) 6(-14.6,17.55) 7(-14.6,17.25) 8(-14.6,16.95) 9(-14.6,16.65) 10(-14.6,16.35) 11(-14.6,16.05) 12(-14.6,15.75) 13(-14.6,15.45) 14(-14.6,15.15) 15(-14.6,14.85) 16(-14.6,14.55) 17(-14.6,14.25) 18(-14.6,13.95) 19(-14.6,13.65) 20(-14.6,13.35) 21(-14.6,13.05) 22(-14.6,12.75) 23(-14.6,12.45) 24(-14.6,12.15) 25(-14.6,11.85) 26(-14.6,11.55) 27(-14.6,11.25) 28(-14.6,10.95) 29(-14.6,10.65) 30(-14.6,10.35) 31(-14.6,10.05) 32(-14.6,9.75) 33(-14.6,9.45) 34(-14.6,9.15) 35(-14.6,8.85) 36(-14.6,8.55) 37(-14.6,8.25) 38(-14.6,7.95) 39(-14.6,7.65) 40(-14.6,7.35) 41(-14.6,7.05) 42(-14.6,6.75) 43(-14.6,6.45) 44(-14.6,6.15) 45(-14.6,5.85) 46(-14.6,5.55) 47(-14.6,5.25) 48(-14.6,4.95) 49(-14.6,4.65) 50(-14.6,4.35) 51(-14.6,4.05) 52(-14.6,3.75) 53(-14.6,3.45) 54(-14.6,3.15) 55(-14.6,2.85) 56(-14.6,2.55) 57(-14.6,2.25) 58(-14.6,1.95) 59(-14.6,1.65) 60(-14.6,1.35) 61(-14.6,1.05) 62(-14.6,0.75) 63(-14.6,0.45) 64(-14.6,0.15) 65(-14.6,-0.15) 66(-14.6,-0.45) 67(-14.6,-0.75) 68(-14.6,-1.05) 69(-14.6,-1.35) 70(-14.6,-1.65) 71(-14.6,-1.95) 72(-14.6,-2.25) 73(-14.6,-2.55) 74(-14.6,-2.85) 75(-14.6,-3.15) 76(-14.6,-3.45) 77(-14.6,-3.75) 78(-14.6,-4.05) 79(-14.6,-4.35) 80(-14.6,-4.65) 81(-14.6,-4.95) 82(-14.6,-5.25) 83(-14.6,-5.55) 84(-14.6,-5.85) 85(-14.6,-6.15) 86(-14.6,-6.45) 87(-14.6,-6.75) 88(-14.6,-7.05) 89(-14.6,-7.35) 90(-14.6,-7.65) 91(-14.6,-7.95) 92(-14.6,-8.25) 93(-14.6,-8.55) 94(-14.6,-8.85) 95(-14.6,-9.15) 96(-14.6,-9.45) 97(-14.6,-9.75) 98(-14.6,-10.05) 99(-14.6,-10.35) 100(-14.6,-10.65) 101(-14.6,-10.95) 102(-14.6,-11.25) 103(-14.6,-11.55) 104(-14.6,-11.85) 105(-14.6,-12.15) 106(-14.6,-12.45) 107(-14.6,-12.75) 108(-14.6,-13.05) 109(-14.6,-13.35) 110(-14.6,-13.65) 111(-14.6,-13.95) 112(-14.6,-14.25) 113(-14.6,-14.55) 114(-14.6,-14.85) 115(-14.6,-15.15) 116(-14.6,-15.45) 117(-14.6,-15.75) 118(-14.6,-16.05) 119(-14.6,-16.35) 120(-14.6,-16.65) 121(-14.6,-16.95) 122(-14.6,-17.25) 123(-14.6,-17.55) 124(-14.6,-17.85) 125(-14.6,-18.15) 126(-14.6,-18.45) 127(-14.6,-18.75) 128(-14.6,-19.05) 217(14.6,-19.05) 218(14.6,-18.75) 219(14.6,-18.45) 220(14.6,-18.15) 221(14.6,-17.85) 222(14.6,-17.55) 223(14.6,-17.25) 224(14.6,-16.95) 225(14.6,-16.65) 226(14.6,-16.35) 227(14.6,-16.05) 228(14.6,-15.75) 229(14.6,-15.45) 230(14.6,-15.15) 231(14.6,-14.85) 232(14.6,-14.55) 233(14.6,-14.25) 234(14.6,-13.95) 235(14.6,-13.65) 236(14.6,-13.35) 237(14.6,-13.05) 238(14.6,-12.75) 239(14.6,-12.45) 240(14.6,-12.15) 241(14.6,-11.85) 242(14.6,-11.55) 243(14.6,-11.25) 244(14.6,-10.95) 245(14.6,-10.65) 246(14.6,-10.35) 247(14.6,-10.05) 248(14.6,-9.75) 249(14.6,-9.45) 250(14.6,-9.15) 251(14.6,-8.85) 252(14.6,-8.55) 253(14.6,-8.25) 254(14.6,-7.95) 255(14.6,-7.65) 256(14.6,-7.35) 257(14.6,-7.05) 258(14.6,-6.75) 259(14.6,-6.45) 260(14.6,-6.15) 261(14.6,-5.85) 262(14.6,-5.55) 263(14.6,-5.25) 264(14.6,-4.95) 265(14.6,-4.65) 266(14.6,-4.35) 267(14.6,-4.05) 268(14.6,-3.75) 269(14.6,-3.45) 270(14.6,-3.15) 271(14.6,-2.85) 272(14.6,-2.55) 273(14.6,-2.25) 274(14.6,-1.95) 275(14.6,-1.65) 276(14.6,-1.35) 277(14.6,-1.05) 278(14.6,-0.75) 279(14.6,-0.45) 280(14.6,-0.15) 281(14.6,0.15) 282(14.6,0.45) 283(14.6,0.75) 284(14.6,1.05) 285(14.6,1.35) 286(14.6,1.65) 287(14.6,1.95) 288(14.6,2.25) 289(14.6,2.55) 290(14.6,2.85) 291(14.6,3.15) 292(14.6,3.45) 293(14.6,3.75) 294(14.6,4.05) 295(14.6,4.35) 296(14.6,4.65) 297(14.6,4.95) 298(14.6,5.25) 299(14.6,5.55) 300(14.6,5.85) 301(14.6,6.15) 302(14.6,6.45) 303(14.6,6.75) 304(14.6,7.05) 305(14.6,7.35) 306(14.6,7.65) 307(14.6,7.95) 308(14.6,8.25) 309(14.6,8.55) 310(14.6,8.85) 311(14.6,9.15) 312(14.6,9.45) 313(14.6,9.75) 314(14.6,10.05) 315(14.6,10.35) 316(14.6,10.65) 317(14.6,10.95) 318(14.6,11.25) 319(14.6,11.55) 320(14.6,11.85) 321(14.6,12.15) 322(14.6,12.45) 323(14.6,12.75) 324(14.6,13.05) 325(14.6,13.35) 326(14.6,13.65) 327(14.6,13.95) 328(14.6,14.25) 329(14.6,14.55) 330(14.6,14.85) 331(14.6,15.15) 332(14.6,15.45) 333(14.6,15.75) 334(14.6,16.05) 335(14.6,16.35) 336(14.6,16.65) 337(14.6,16.95) 338(14.6,17.25) 339(14.6,17.55) 340(14.6,17.85) 341(14.6,18.15) 342(14.6,18.45) 343(14.6,18.75) 344(14.6,19.05)
  oval 0.2x2.1 smd: 129(-13.05,-20.6) 130(-12.75,-20.6) 131(-12.45,-20.6) 132(-12.15,-20.6) 133(-11.85,-20.6) 134(-11.55,-20.6) 135(-11.25,-20.6) 136(-10.95,-20.6) 137(-10.65,-20.6) 138(-10.35,-20.6) 139(-10.05,-20.6) 140(-9.75,-20.6) 141(-9.45,-20.6) 142(-9.15,-20.6) 143(-8.85,-20.6) 144(-8.55,-20.6) 145(-8.25,-20.6) 146(-7.95,-20.6) 147(-7.65,-20.6) 148(-7.35,-20.6) 149(-7.05,-20.6) 150(-6.75,-20.6) 151(-6.45,-20.6) 152(-6.15,-20.6) 153(-5.85,-20.6) 154(-5.55,-20.6) 155(-5.25,-20.6) 156(-4.95,-20.6) 157(-4.65,-20.6) 158(-4.35,-20.6) 159(-4.05,-20.6) 160(-3.75,-20.6) 161(-3.45,-20.6) 162(-3.15,-20.6) 163(-2.85,-20.6) 164(-2.55,-20.6) 165(-2.25,-20.6) 166(-1.95,-20.6) 167(-1.65,-20.6) 168(-1.35,-20.6) 169(-1.05,-20.6) 170(-0.75,-20.6) 171(-0.45,-20.6) 172(-0.15,-20.6) 173(0.15,-20.6) 174(0.45,-20.6) 175(0.75,-20.6) 176(1.05,-20.6) 177(1.35,-20.6) 178(1.65,-20.6) 179(1.95,-20.6) 180(2.25,-20.6) 181(2.55,-20.6) 182(2.85,-20.6) 183(3.15,-20.6) 184(3.45,-20.6) 185(3.75,-20.6) 186(4.05,-20.6) 187(4.35,-20.6) 188(4.65,-20.6) 189(4.95,-20.6) 190(5.25,-20.6) 191(5.55,-20.6) 192(5.85,-20.6) 193(6.15,-20.6) 194(6.45,-20.6) 195(6.75,-20.6) 196(7.05,-20.6) 197(7.35,-20.6) 198(7.65,-20.6) 199(7.95,-20.6) 200(8.25,-20.6) 201(8.55,-20.6) 202(8.85,-20.6) 203(9.15,-20.6) 204(9.45,-20.6) 205(9.75,-20.6) 206(10.05,-20.6) 207(10.35,-20.6) 208(10.65,-20.6) 209(10.95,-20.6) 210(11.25,-20.6) 211(11.55,-20.6) 212(11.85,-20.6) 213(12.15,-20.6) 214(12.45,-20.6) 215(12.75,-20.6) 216(13.05,-20.6) 345(13.05,20.6) 346(12.75,20.6) 347(12.45,20.6) 348(12.15,20.6) 349(11.85,20.6) 350(11.55,20.6) 351(11.25,20.6) 352(10.95,20.6) 353(10.65,20.6) 354(10.35,20.6) 355(10.05,20.6) 356(9.75,20.6) 357(9.45,20.6) 358(9.15,20.6) 359(8.85,20.6) 360(8.55,20.6) 361(8.25,20.6) 362(7.95,20.6) 363(7.65,20.6) 364(7.35,20.6) 365(7.05,20.6) 366(6.75,20.6) 367(6.45,20.6) 368(6.15,20.6) 369(5.85,20.6) 370(5.55,20.6) 371(5.25,20.6) 372(4.95,20.6) 373(4.65,20.6) 374(4.35,20.6) 375(4.05,20.6) 376(3.75,20.6) 377(3.45,20.6) 378(3.15,20.6) 379(2.85,20.6) 380(2.55,20.6) 381(2.25,20.6) 382(1.95,20.6) 383(1.65,20.6) 384(1.35,20.6) 385(1.05,20.6) 386(0.75,20.6) 387(0.45,20.6) 388(0.15,20.6) 389(-0.15,20.6) 390(-0.45,20.6) 391(-0.75,20.6) 392(-1.05,20.6) 393(-1.35,20.6) 394(-1.65,20.6) 395(-1.95,20.6) 396(-2.25,20.6) 397(-2.55,20.6) 398(-2.85,20.6) 399(-3.15,20.6) 400(-3.45,20.6) 401(-3.75,20.6) 402(-4.05,20.6) 403(-4.35,20.6) 404(-4.65,20.6) 405(-4.95,20.6) 406(-5.25,20.6) 407(-5.55,20.6) 408(-5.85,20.6) 409(-6.15,20.6) 410(-6.45,20.6) 411(-6.75,20.6) 412(-7.05,20.6) 413(-7.35,20.6) 414(-7.65,20.6) 415(-7.95,20.6) 416(-8.25,20.6) 417(-8.55,20.6) 418(-8.85,20.6) 419(-9.15,20.6) 420(-9.45,20.6) 421(-9.75,20.6) 422(-10.05,20.6) 423(-10.35,20.6) 424(-10.65,20.6) 425(-10.95,20.6) 426(-11.25,20.6) 427(-11.55,20.6) 428(-11.85,20.6) 429(-12.15,20.6) 430(-12.45,20.6) 431(-12.75,20.6) 432(-13.05,20.6)
Top Overlay:
  circle w0.25: c-14.6,19.7 r0.125
  circle w0.6: c-12.15,18.15 r0.3
  lines w0.2: -13.15,-19.15 -13.15,19.15 13.15,19.15 13.15,-19.15 -13.15,-19.15
Mechanical 13:
  circle w0.1: c-13.1,19.1 r0.5
  lines w0.1: -14,-20 -14,20 14,20 14,-20 -14,-20
Mechanical 15:
  lines w0.1: -0.5,0 0.5,0 ; 0,-0.5 0,0.5 ; -16.15,-22.15 -16.15,22.15 16.15,22.15 16.15,-22.15 -16.15,-22.15
3D body: height 4.2, standoff 0, extent -14,-20 14,20

## SQFP30P3000X4200-440M [mm] "Shrink QFP, 440-Leads, Body 40x28 mm, Pitch 0.3mm, IPC Low Density"
height 4.2
pads (440):
  oval 2.05x0.2 smd: 1(-14.625,19.35) 2(-14.625,19.05) 3(-14.625,18.75) 4(-14.625,18.45) 5(-14.625,18.15) 6(-14.625,17.85) 7(-14.625,17.55) 8(-14.625,17.25) 9(-14.625,16.95) 10(-14.625,16.65) 11(-14.625,16.35) 12(-14.625,16.05) 13(-14.625,15.75) 14(-14.625,15.45) 15(-14.625,15.15) 16(-14.625,14.85) 17(-14.625,14.55) 18(-14.625,14.25) 19(-14.625,13.95) 20(-14.625,13.65) 21(-14.625,13.35) 22(-14.625,13.05) 23(-14.625,12.75) 24(-14.625,12.45) 25(-14.625,12.15) 26(-14.625,11.85) 27(-14.625,11.55) 28(-14.625,11.25) 29(-14.625,10.95) 30(-14.625,10.65) 31(-14.625,10.35) 32(-14.625,10.05) 33(-14.625,9.75) 34(-14.625,9.45) 35(-14.625,9.15) 36(-14.625,8.85) 37(-14.625,8.55) 38(-14.625,8.25) 39(-14.625,7.95) 40(-14.625,7.65) 41(-14.625,7.35) 42(-14.625,7.05) 43(-14.625,6.75) 44(-14.625,6.45) 45(-14.625,6.15) 46(-14.625,5.85) 47(-14.625,5.55) 48(-14.625,5.25) 49(-14.625,4.95) 50(-14.625,4.65) 51(-14.625,4.35) 52(-14.625,4.05) 53(-14.625,3.75) 54(-14.625,3.45) 55(-14.625,3.15) 56(-14.625,2.85) 57(-14.625,2.55) 58(-14.625,2.25) 59(-14.625,1.95) 60(-14.625,1.65) 61(-14.625,1.35) 62(-14.625,1.05) 63(-14.625,0.75) 64(-14.625,0.45) 65(-14.625,0.15) 66(-14.625,-0.15) 67(-14.625,-0.45) 68(-14.625,-0.75) 69(-14.625,-1.05) 70(-14.625,-1.35) 71(-14.625,-1.65) 72(-14.625,-1.95) 73(-14.625,-2.25) 74(-14.625,-2.55) 75(-14.625,-2.85) 76(-14.625,-3.15) 77(-14.625,-3.45) 78(-14.625,-3.75) 79(-14.625,-4.05) 80(-14.625,-4.35) 81(-14.625,-4.65) 82(-14.625,-4.95) 83(-14.625,-5.25) 84(-14.625,-5.55) 85(-14.625,-5.85) 86(-14.625,-6.15) 87(-14.625,-6.45) 88(-14.625,-6.75) 89(-14.625,-7.05) 90(-14.625,-7.35) 91(-14.625,-7.65) 92(-14.625,-7.95) 93(-14.625,-8.25) 94(-14.625,-8.55) 95(-14.625,-8.85) 96(-14.625,-9.15) 97(-14.625,-9.45) 98(-14.625,-9.75) 99(-14.625,-10.05) 100(-14.625,-10.35) 101(-14.625,-10.65) 102(-14.625,-10.95) 103(-14.625,-11.25) 104(-14.625,-11.55) 105(-14.625,-11.85) 106(-14.625,-12.15) 107(-14.625,-12.45) 108(-14.625,-12.75) 109(-14.625,-13.05) 110(-14.625,-13.35) 111(-14.625,-13.65) 112(-14.625,-13.95) 113(-14.625,-14.25) 114(-14.625,-14.55) 115(-14.625,-14.85) 116(-14.625,-15.15) 117(-14.625,-15.45) 118(-14.625,-15.75) 119(-14.625,-16.05) 120(-14.625,-16.35) 121(-14.625,-16.65) 122(-14.625,-16.95) 123(-14.625,-17.25) 124(-14.625,-17.55) 125(-14.625,-17.85) 126(-14.625,-18.15) 127(-14.625,-18.45) 128(-14.625,-18.75) 129(-14.625,-19.05) 130(-14.625,-19.35) 221(14.625,-19.35) 222(14.625,-19.05) 223(14.625,-18.75) 224(14.625,-18.45) 225(14.625,-18.15) 226(14.625,-17.85) 227(14.625,-17.55) 228(14.625,-17.25) 229(14.625,-16.95) 230(14.625,-16.65) 231(14.625,-16.35) 232(14.625,-16.05) 233(14.625,-15.75) 234(14.625,-15.45) 235(14.625,-15.15) 236(14.625,-14.85) 237(14.625,-14.55) 238(14.625,-14.25) 239(14.625,-13.95) 240(14.625,-13.65) 241(14.625,-13.35) 242(14.625,-13.05) 243(14.625,-12.75) 244(14.625,-12.45) 245(14.625,-12.15) 246(14.625,-11.85) 247(14.625,-11.55) 248(14.625,-11.25) 249(14.625,-10.95) 250(14.625,-10.65) 251(14.625,-10.35) 252(14.625,-10.05) 253(14.625,-9.75) 254(14.625,-9.45) 255(14.625,-9.15) 256(14.625,-8.85) 257(14.625,-8.55) 258(14.625,-8.25) 259(14.625,-7.95) 260(14.625,-7.65) 261(14.625,-7.35) 262(14.625,-7.05) 263(14.625,-6.75) 264(14.625,-6.45) 265(14.625,-6.15) 266(14.625,-5.85) 267(14.625,-5.55) 268(14.625,-5.25) 269(14.625,-4.95) 270(14.625,-4.65) 271(14.625,-4.35) 272(14.625,-4.05) 273(14.625,-3.75) 274(14.625,-3.45) 275(14.625,-3.15) 276(14.625,-2.85) 277(14.625,-2.55) 278(14.625,-2.25) 279(14.625,-1.95) 280(14.625,-1.65) 281(14.625,-1.35) 282(14.625,-1.05) 283(14.625,-0.75) 284(14.625,-0.45) 285(14.625,-0.15) 286(14.625,0.15) 287(14.625,0.45) 288(14.625,0.75) 289(14.625,1.05) 290(14.625,1.35) 291(14.625,1.65) 292(14.625,1.95) 293(14.625,2.25) 294(14.625,2.55) 295(14.625,2.85) 296(14.625,3.15) 297(14.625,3.45) 298(14.625,3.75) 299(14.625,4.05) 300(14.625,4.35) 301(14.625,4.65) 302(14.625,4.95) 303(14.625,5.25) 304(14.625,5.55) 305(14.625,5.85) 306(14.625,6.15) 307(14.625,6.45) 308(14.625,6.75) 309(14.625,7.05) 310(14.625,7.35) 311(14.625,7.65) 312(14.625,7.95) 313(14.625,8.25) 314(14.625,8.55) 315(14.625,8.85) 316(14.625,9.15) 317(14.625,9.45) 318(14.625,9.75) 319(14.625,10.05) 320(14.625,10.35) 321(14.625,10.65) 322(14.625,10.95) 323(14.625,11.25) 324(14.625,11.55) 325(14.625,11.85) 326(14.625,12.15) 327(14.625,12.45) 328(14.625,12.75) 329(14.625,13.05) 330(14.625,13.35) 331(14.625,13.65) 332(14.625,13.95) 333(14.625,14.25) 334(14.625,14.55) 335(14.625,14.85) 336(14.625,15.15) 337(14.625,15.45) 338(14.625,15.75) 339(14.625,16.05) 340(14.625,16.35) 341(14.625,16.65) 342(14.625,16.95) 343(14.625,17.25) 344(14.625,17.55) 345(14.625,17.85) 346(14.625,18.15) 347(14.625,18.45) 348(14.625,18.75) 349(14.625,19.05) 350(14.625,19.35)
  oval 0.2x2.05 smd: 131(-13.35,-20.625) 132(-13.05,-20.625) 133(-12.75,-20.625) 134(-12.45,-20.625) 135(-12.15,-20.625) 136(-11.85,-20.625) 137(-11.55,-20.625) 138(-11.25,-20.625) 139(-10.95,-20.625) 140(-10.65,-20.625) 141(-10.35,-20.625) 142(-10.05,-20.625) 143(-9.75,-20.625) 144(-9.45,-20.625) 145(-9.15,-20.625) 146(-8.85,-20.625) 147(-8.55,-20.625) 148(-8.25,-20.625) 149(-7.95,-20.625) 150(-7.65,-20.625) 151(-7.35,-20.625) 152(-7.05,-20.625) 153(-6.75,-20.625) 154(-6.45,-20.625) 155(-6.15,-20.625) 156(-5.85,-20.625) 157(-5.55,-20.625) 158(-5.25,-20.625) 159(-4.95,-20.625) 160(-4.65,-20.625) 161(-4.35,-20.625) 162(-4.05,-20.625) 163(-3.75,-20.625) 164(-3.45,-20.625) 165(-3.15,-20.625) 166(-2.85,-20.625) 167(-2.55,-20.625) 168(-2.25,-20.625) 169(-1.95,-20.625) 170(-1.65,-20.625) 171(-1.35,-20.625) 172(-1.05,-20.625) 173(-0.75,-20.625) 174(-0.45,-20.625) 175(-0.15,-20.625) 176(0.15,-20.625) 177(0.45,-20.625) 178(0.75,-20.625) 179(1.05,-20.625) 180(1.35,-20.625) 181(1.65,-20.625) 182(1.95,-20.625) 183(2.25,-20.625) 184(2.55,-20.625) 185(2.85,-20.625) 186(3.15,-20.625) 187(3.45,-20.625) 188(3.75,-20.625) 189(4.05,-20.625) 190(4.35,-20.625) 191(4.65,-20.625) 192(4.95,-20.625) 193(5.25,-20.625) 194(5.55,-20.625) 195(5.85,-20.625) 196(6.15,-20.625) 197(6.45,-20.625) 198(6.75,-20.625) 199(7.05,-20.625) 200(7.35,-20.625) 201(7.65,-20.625) 202(7.95,-20.625) 203(8.25,-20.625) 204(8.55,-20.625) 205(8.85,-20.625) 206(9.15,-20.625) 207(9.45,-20.625) 208(9.75,-20.625) 209(10.05,-20.625) 210(10.35,-20.625) 211(10.65,-20.625) 212(10.95,-20.625) 213(11.25,-20.625) 214(11.55,-20.625) 215(11.85,-20.625) 216(12.15,-20.625) 217(12.45,-20.625) 218(12.75,-20.625) 219(13.05,-20.625) 220(13.35,-20.625) 351(13.35,20.625) 352(13.05,20.625) 353(12.75,20.625) 354(12.45,20.625) 355(12.15,20.625) 356(11.85,20.625) 357(11.55,20.625) 358(11.25,20.625) 359(10.95,20.625) 360(10.65,20.625) 361(10.35,20.625) 362(10.05,20.625) 363(9.75,20.625) 364(9.45,20.625) 365(9.15,20.625) 366(8.85,20.625) 367(8.55,20.625) 368(8.25,20.625) 369(7.95,20.625) 370(7.65,20.625) 371(7.35,20.625) 372(7.05,20.625) 373(6.75,20.625) 374(6.45,20.625) 375(6.15,20.625) 376(5.85,20.625) 377(5.55,20.625) 378(5.25,20.625) 379(4.95,20.625) 380(4.65,20.625) 381(4.35,20.625) 382(4.05,20.625) 383(3.75,20.625) 384(3.45,20.625) 385(3.15,20.625) 386(2.85,20.625) 387(2.55,20.625) 388(2.25,20.625) 389(1.95,20.625) 390(1.65,20.625) 391(1.35,20.625) 392(1.05,20.625) 393(0.75,20.625) 394(0.45,20.625) 395(0.15,20.625) 396(-0.15,20.625) 397(-0.45,20.625) 398(-0.75,20.625) 399(-1.05,20.625) 400(-1.35,20.625) 401(-1.65,20.625) 402(-1.95,20.625) 403(-2.25,20.625) 404(-2.55,20.625) 405(-2.85,20.625) 406(-3.15,20.625) 407(-3.45,20.625) 408(-3.75,20.625) 409(-4.05,20.625) 410(-4.35,20.625) 411(-4.65,20.625) 412(-4.95,20.625) 413(-5.25,20.625) 414(-5.55,20.625) 415(-5.85,20.625) 416(-6.15,20.625) 417(-6.45,20.625) 418(-6.75,20.625) 419(-7.05,20.625) 420(-7.35,20.625) 421(-7.65,20.625) 422(-7.95,20.625) 423(-8.25,20.625) 424(-8.55,20.625) 425(-8.85,20.625) 426(-9.15,20.625) 427(-9.45,20.625) 428(-9.75,20.625) 429(-10.05,20.625) 430(-10.35,20.625) 431(-10.65,20.625) 432(-10.95,20.625) 433(-11.25,20.625) 434(-11.55,20.625) 435(-11.85,20.625) 436(-12.15,20.625) 437(-12.45,20.625) 438(-12.75,20.625) 439(-13.05,20.625) 440(-13.35,20.625)
Top Overlay:
  circle w0.25: c-14.625,20 r0.125
  circle w0.6: c-12.2,18.2 r0.3
  lines w0.2: -13.2,-19.2 -13.2,19.2 13.2,19.2 13.2,-19.2 -13.2,-19.2
Mechanical 13:
  circle w0.1: c-13.1,19.1 r0.5
  lines w0.1: -14,-20 -14,20 14,20 14,-20 -14,-20
Mechanical 15:
  lines w0.1: -0.5,0 0.5,0 ; 0,-0.5 0,0.5 ; -16.15,-22.15 -16.15,22.15 16.15,22.15 16.15,-22.15 -16.15,-22.15
3D body: height 4.2, standoff 0, extent -14,-20 14,20